# EAGLE library part PROTOPIC-LEVELSHIFTER (library aobotelhoLibrary)
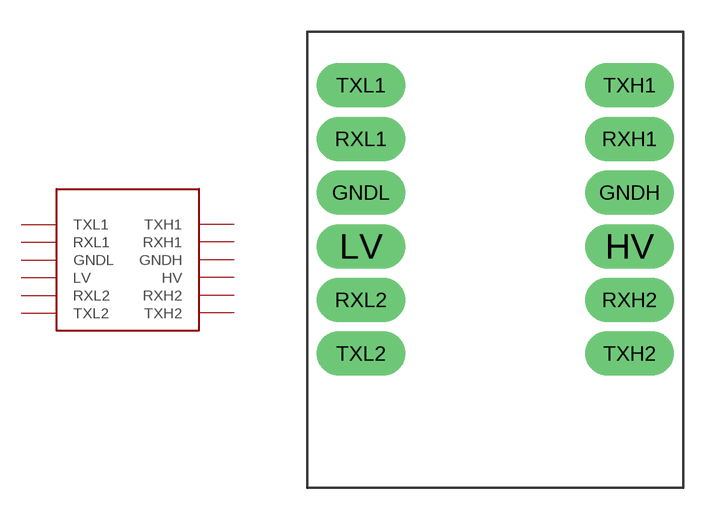
[diagram p10: symbol with the pads of PROTOPIC-LEVELSHIFTER; footprint PROTOPIC-LEVELSHIFTER]

Designator prefix -

## PROTOPIC-LEVELSHIFTER  [PROTOPIC-LEVELSHIFTER]
GNDH  GNDH
GNDL  GNDL
HV  HV
LV  LV
RXH1  RXH1
RXH2  RXH2
RXL1  RXL1
RXL2  RXL2
TXH1  TXH1
TXH2  TXH2
TXL1  TXL1
TXL2  TXL2

## Footprint PROTOPIC-LEVELSHIFTER (pad centres in mm)
drill 1.4 long: GNDH 6.35,2.54; GNDL -6.35,2.54; HV 6.35,0; LV -6.35,0; RXH1 6.35,5.08; RXH2 6.35,-2.54; RXL1 -6.35,5.08; RXL2 -6.35,-2.54; TXH1 6.35,7.62; TXH2 6.35,-5.08; TXL1 -6.35,7.62; TXL2 -6.35,-5.08